# Altium footprint library WR-TBL_Spring Clamp_10.00mm.PcbLib: 4 footprints
Each footprint in its own frame and in the unit in brackets; x right, y up, seen from the top. Pads: shape width x height; smd on the part's side, far side on the other; paste and mask are expansions set on the pad; w line width, h text height; cw(c..) or ccw(c..) is an arc to the next point about the centre after c.
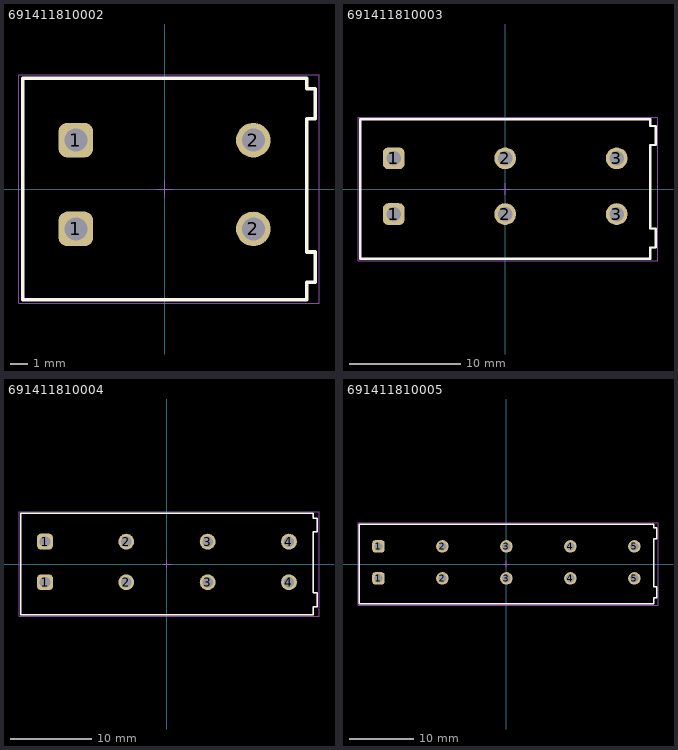
[diagram p0: the footprints below, top view; thin cyan lines are the x and y axes]

## 691411810002 [mm] "10.00mm Horizontal Cable Entry Screwless, 02p"
height 13.9
pads (4):
  rrect50% 1.95x1.95 hole 1.3: 1(-5,-2.25) 1(-5,2.75)
  round 1.95 hole 1.3: 2(5,-2.25) 2(5,2.75)
Top Overlay:
  lines w0.2: -8,-6.25 8,-6.25 8,-5.25 8.5,-5.25 8.5,-3.55 8,-3.55 8,3.95 8.5,3.95 8.5,5.65 8,5.65 8,6.25 -8,6.25 -8,-6.25
Top Designator:
  text ".Designator" at -7.498,-0.5 h1.5
Top Component Outline:
  lines w0.1: -8,-6.25 -8,6.25 8,6.25 8,5.65 8.5,5.65 8.5,3.95 8,3.95 8,-3.55 8.5,-3.55 8.5,-5.25 8,-5.25 8,-6.25 -8,-6.25
Top 3D Body:
  lines w0.1: -8,-6.25 8,-6.25 8,-5.25 8.5,-5.25 8.5,-3.55 8,-3.55 8,3.95 8.5,3.95 8.5,5.65 8,5.65 8,6.25 -8,6.25 -8,-6.25
Top Courtyard:
  lines w0.05: -8.2,-6.45 8.7,-6.45 8.7,6.45 -8.2,6.45 -8.2,-6.45
Top Component Center:
  lines w0.05: -0.5,0 0.5,0 ; 0,-0.5 0,0.5
3D body "691411810002.stp": height 14, standoff -3.5, extent -8,-6.25 8.5,6.25

## 691411810003 [mm] "10.00mm Horizontal Cable Entry Screwless, 03p"
height 13.9
pads (6):
  rrect50% 1.95x1.95 hole 1.3: 1(-10,-2.25) 1(-10,2.75)
  round 1.95 hole 1.3: 2(0,-2.25) 2(0,2.75) 3(10,-2.25) 3(10,2.75)
Top Overlay:
  lines w0.2: -13,-6.25 13,-6.25 13,-5.25 13.5,-5.25 13.5,-3.55 13,-3.55 13,3.95 13.5,3.95 13.5,5.65 13,5.65 13,6.25 -13,6.25 -13,-6.25
Top Designator:
  text ".Designator" at -7.498,-0.5 h1.5
Top Component Outline:
  lines w0.1: -13,-6.25 -13,6.25 13,6.25 13,5.65 13.5,5.65 13.5,3.95 13,3.95 13,-3.55 13.5,-3.55 13.5,-5.25 13,-5.25 13,-6.25 -13,-6.25
Top 3D Body:
  lines w0.1: -13,-6.25 13,-6.25 13,-5.25 13.5,-5.25 13.5,-3.55 13,-3.55 13,3.95 13.5,3.95 13.5,5.65 13,5.65 13,6.25 -13,6.25 -13,-6.25
Top Courtyard:
  lines w0.05: -13.2,-6.45 13.7,-6.45 13.7,6.45 -13.2,6.45 -13.2,-6.45
Top Component Center:
  lines w0.05: -0.5,0 0.5,0 ; 0,-0.5 0,0.5
3D body "691411810003.stp": height 14, standoff -3.5, extent -13,-6.25 13.5,6.25

## 691411810004 [mm] "10.00mm Horizontal Cable Entry Screwless, 04p"
height 13.9
pads (8):
  rrect50% 1.95x1.95 hole 1.3: 1(-15,-2.25) 1(-15,2.75)
  round 1.95 hole 1.3: 2(-5,-2.25) 2(-5,2.75) 3(5,-2.25) 3(5,2.75) 4(15,-2.25) 4(15,2.75)
Top Overlay:
  lines w0.2: -18,-6.25 18,-6.25 18,-5.25 18.5,-5.25 18.5,-3.55 18,-3.55 18,3.95 18.5,3.95 18.5,5.65 18,5.65 18,6.25 -18,6.25 -18,-6.25
Top Designator:
  text ".Designator" at -7.498,-0.5 h1.5
Top Component Outline:
  lines w0.1: -18,-6.25 -18,6.25 18,6.25 18,5.65 18.5,5.65 18.5,3.95 18,3.95 18,-3.55 18.5,-3.55 18.5,-5.25 18,-5.25 18,-6.25 -18,-6.25
Top 3D Body:
  lines w0.1: -18,-6.25 18,-6.25 18,-5.25 18.5,-5.25 18.5,-3.55 18,-3.55 18,3.95 18.5,3.95 18.5,5.65 18,5.65 18,6.25 -18,6.25 -18,-6.25
Top Courtyard:
  lines w0.05: -18.2,-6.45 18.7,-6.45 18.7,6.45 -18.2,6.45 -18.2,-6.45
Top Component Center:
  lines w0.05: -0.5,0 0.5,0 ; 0,-0.5 0,0.5
3D body "691411810004.stp": height 14, standoff -3.5, extent -18,-6.25 18.5,6.25

## 691411810005 [mm] "10.00mm Horizontal Cable Entry Screwless, 05p"
height 13.9
pads (10):
  rrect50% 1.95x1.95 hole 1.3: 1(-20,-2.25) 1(-20,2.75)
  round 1.95 hole 1.3: 2(-10,-2.25) 2(-10,2.75) 3(0,-2.25) 3(0,2.75) 4(10,-2.25) 4(10,2.75) 5(20,-2.25) 5(20,2.75)
Top Overlay:
  lines w0.2: -23,-6.25 23,-6.25 23,-5.25 23.5,-5.25 23.5,-3.55 23,-3.55 23,3.95 23.5,3.95 23.5,5.65 23,5.65 23,6.25 -23,6.25 -23,-6.25
Top Designator:
  text ".Designator" at -7.498,-0.5 h1.5
Top Component Outline:
  lines w0.1: -23,-6.25 -23,6.25 23,6.25 23,5.65 23.5,5.65 23.5,3.95 23,3.95 23,-3.55 23.5,-3.55 23.5,-5.25 23,-5.25 23,-6.25 -23,-6.25
Top 3D Body:
  lines w0.1: -23,-6.25 23,-6.25 23,-5.25 23.5,-5.25 23.5,-3.55 23,-3.55 23,3.95 23.5,3.95 23.5,5.65 23,5.65 23,6.25 -23,6.25 -23,-6.25
Top Courtyard:
  lines w0.05: -23.2,-6.45 23.7,-6.45 23.7,6.45 -23.2,6.45 -23.2,-6.45
Top Component Center:
  lines w0.05: -0.5,0 0.5,0 ; 0,-0.5 0,0.5
3D body "691411810005.stp": height 14, standoff -3.5, extent -23,-6.25 23.5,6.25